# EAGLE library part LTC6655 (library SquantorLinearTechnology)
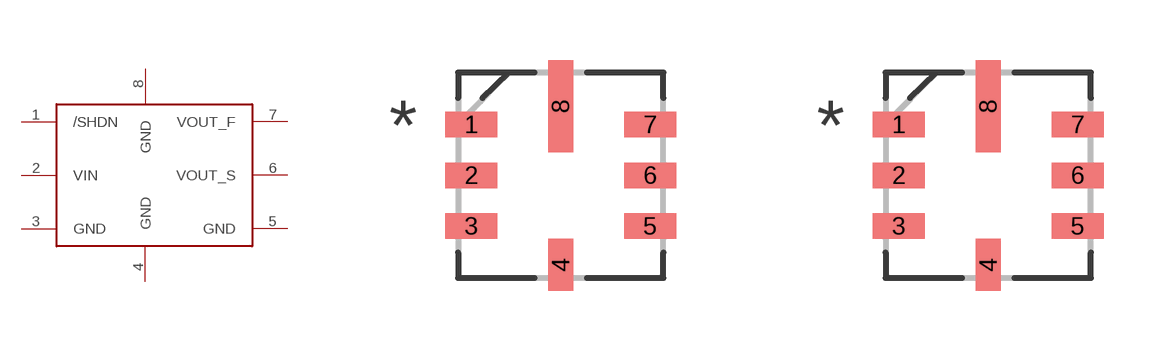
[diagram p1: symbol with the pads of LCC127P500X500X155-8N; footprints LCC127P500X500X155-8N, LS8]

Designator prefix -

## LTC6655LCC  [LCC127P500X500X155-8N]
1  /SHDN  in
2  VIN  in
3  GND  in
4  GND  in
5  GND  in
6  VOUT_S  in
7  VOUT_F  in
8  GND  in

## LTC6655LS8  [LS8]
Pads as for LCC127P500X500X155-8N

## LTC6655LS8_ELONG  [LS8_ELONG]
Pads as for LCC127P500X500X155-8N

## Footprint LCC127P500X500X155-8N (pad centres in mm)
smd 1.295 x 0.635: 1 -2.235,1.27; 2 -2.235,0; 3 -2.235,-1.27; 5 2.235,-1.27; 6 2.235,0; 7 2.235,1.27
smd 0.635 x 1.295: 4 0,-2.235
smd 0.635 x 2.311: 8 0,1.727

## Footprint LS8 (pad centres in mm)
smd 1.295 x 0.635: 1 -2.235,1.27; 2 -2.235,0; 3 -2.235,-1.27; 5 2.235,-1.27; 6 2.235,0; 7 2.235,1.27
smd 0.635 x 1.295: 4 0,-2.235
smd 0.635 x 2.311: 8 0,1.727

## Footprint LS8_ELONG (pad centres in mm)
smd 1.905 x 0.635: 1 -2.54,1.27; 2 -2.54,0; 3 -2.54,-1.27; 5 2.54,-1.27; 6 2.54,0; 7 2.54,1.27
smd 0.635 x 1.905: 4 0,-2.54
smd 0.635 x 2.97: 8 0,2.045